# Altium footprint library 691 328 310 0xx.PcbLib: 6 footprints
Each footprint in its own frame and in the unit in brackets; x right, y up, seen from the top. Pads: shape width x height; smd on the part's side, far side on the other; paste and mask are expansions set on the pad; w line width, h text height; cw(c..) or ccw(c..) is an arc to the next point about the centre after c.
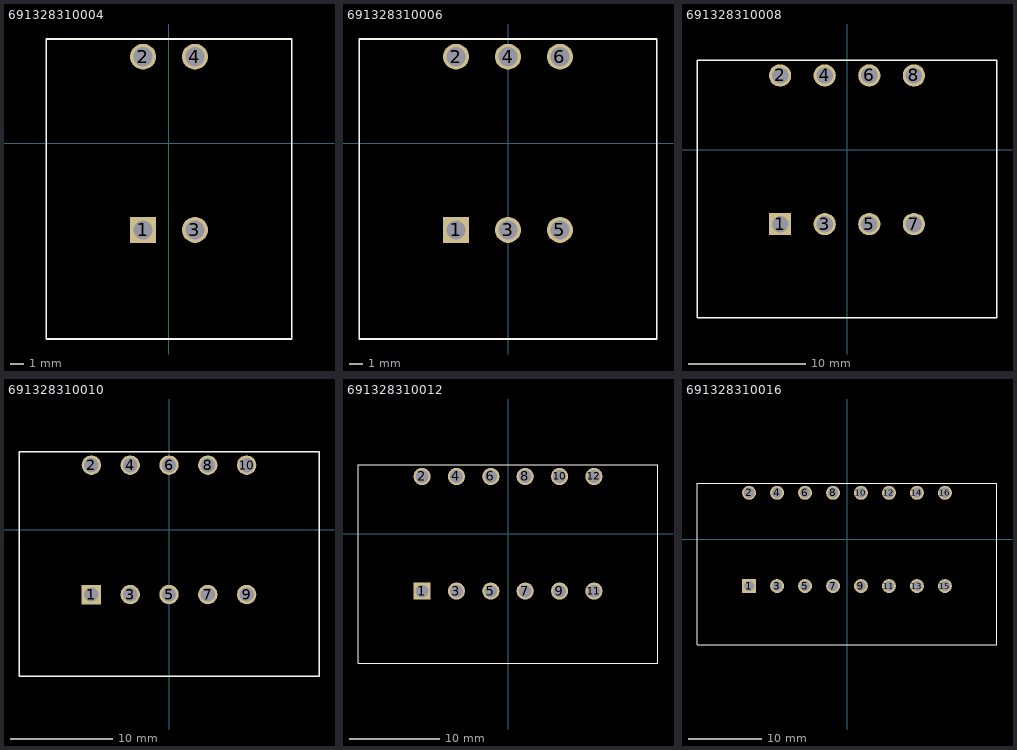
[diagram p0: the footprints below, top view; thin cyan lines are the x and y axes]

## 691328310004 [mm] "3,81mm - PCB - Dual row - Horizontal - Flanges - 04p"
height 22.7
pads (4):
  rect 1.9x1.9 hole 1.4: 1(-1.905,-6.35)
  round 1.9 hole 1.4: 2(-1.905,6.35) 3(1.905,-6.35) 4(1.905,6.35)
Top Overlay:
  lines w0.127: -9.005,-14.35 9.005,-14.35 9.005,7.65 -9.005,7.65 -9.005,-14.35
3D body: height 22.71, standoff -3.49, extent -9.005,-14.35 9.005,7.65

## 691328310006 [mm] "3,81mm - PCB - Dual row - Horizontal - Flanges - 06p"
height 22.7
pads (6):
  rect 1.9x1.9 hole 1.4: 1(-3.81,-6.35)
  round 1.9 hole 1.4: 2(-3.81,6.35) 3(0,-6.35) 4(0,6.35) 5(3.81,-6.35) 6(3.81,6.35)
Top Overlay:
  lines w0.127: -7.1,-14.35 10.91,-14.35 10.91,7.65 -7.1,7.65 ; 7.1,-14.35 -10.91,-14.35 -10.91,7.65 7.1,7.65
3D body: height 22.71, standoff -3.49, extent -10.91,-14.35 10.91,7.65

## 691328310008 [mm] "3,81mm - PCB - Dual row - Horizontal - Flanges - 08p"
height 22.7
pads (8):
  rect 1.9x1.9 hole 1.4: 1(-5.715,-6.35)
  round 1.9 hole 1.4: 2(-5.715,6.35) 3(-1.905,-6.35) 4(-1.905,6.35) 5(1.905,-6.35) 6(1.905,6.35) 7(5.715,-6.35) 8(5.715,6.35)
Top Overlay:
  lines w0.127: -5.195,-14.35 12.815,-14.35 12.815,7.65 -5.195,7.65 ; 5.195,-14.35 -12.815,-14.35 -12.815,7.65 5.195,7.65
3D body: height 22.71, standoff -3.49, extent -12.815,-14.35 12.815,7.65

## 691328310010 [mm] "3,81mm - PCB - Dual row - Horizontal - Flanges - 10p"
height 22.7
pads (10):
  rect 1.9x1.9 hole 1.4: 1(-7.62,-6.35)
  round 1.9 hole 1.4: 2(-7.62,6.35) 3(-3.81,-6.35) 4(-3.81,6.35) 5(0,-6.35) 6(0,6.35) 7(3.81,-6.35) 8(3.81,6.35) 9(7.62,-6.35) 10(7.62,6.35)
Top Overlay:
  lines w0.127: -10.91,-14.35 7.1,-14.35 ; -10.91,7.65 7.1,7.65 ; -3.29,-14.35 14.72,-14.35 14.72,7.65 -3.29,7.65 ; 3.29,-14.35 -14.72,-14.35 -14.72,7.65 3.29,7.65
3D body: height 22.71, standoff -3.49, extent -14.72,-14.35 14.72,7.65

## 691328310012 [mm] "3,81mm - PCB - Dual row - Horizontal - Flanges - 12p"
height 22.7
pads (12):
  rect 1.9x1.9 hole 1.4: 1(-9.525,-6.35)
  round 1.9 hole 1.4: 2(-9.525,6.35) 3(-5.715,-6.35) 4(-5.715,6.35) 5(-1.905,-6.35) 6(-1.905,6.35) 7(1.905,-6.35) 8(1.905,6.35) 9(5.715,-6.35) 10(5.715,6.35) 11(9.525,-6.35) 12(9.525,6.35)
Top Overlay:
  lines w0.127: -9.005,-14.35 9.005,-14.35 ; -9.005,7.65 9.005,7.65 ; -1.385,-14.35 16.625,-14.35 16.625,7.65 -1.385,7.65 ; 1.385,-14.35 -16.625,-14.35 -16.625,7.65 1.385,7.65
3D body: height 22.71, standoff -3.49, extent -16.625,-14.35 16.625,7.65

## 691328310016 [mm] "3,81mm - PCB - Dual row - Horizontal - Flanges - 16p"
height 22.7
pads (16):
  rect 1.9x1.9 hole 1.4: 1(-13.335,-6.35)
  round 1.9 hole 1.4: 2(-13.335,6.35) 3(-9.525,-6.35) 4(-9.525,6.35) 5(-5.715,-6.35) 6(-5.715,6.35) 7(-1.905,-6.35) 8(-1.905,6.35) 9(1.905,-6.35) 10(1.905,6.35) 11(5.715,-6.35) 12(5.715,6.35) 13(9.525,-6.35) 14(9.525,6.35) 15(13.335,-6.35) 16(13.335,6.35)
Top Overlay:
  lines w0.127: -12.815,-14.35 5.195,-14.35 ; -12.815,7.65 5.195,7.65 ; -5.195,-14.35 12.815,-14.35 ; -5.195,7.65 12.815,7.65 ; -2.425,-14.35 -20.435,-14.35 -20.435,7.65 -2.425,7.65 ; 2.425,-14.35 20.435,-14.35 20.435,7.65 2.425,7.65
3D body: height 22.71, standoff -3.49, extent -20.435,-14.35 20.435,7.65